# Altium schematic symbol library MCP9700.SchLib: 1 symbol
Pins are listed as number, name and electrical type; pins without a type are passive.

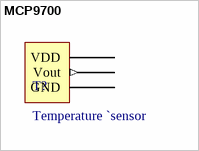
[diagram p0: symbol MCP9700]

## MCP9700
designator T?, comment Temperature `sensor
footprint TO-92
pins: 1 VDD (power), 2 Vout (out), 3 GND